# Altium footprint library analogmushroom.PcbLib: 50 footprints (part 2 of 4)
Each footprint in its own frame and in the unit in brackets; x right, y up, seen from the top. Pads: shape width x height; smd on the part's side, far side on the other; paste and mask are expansions set on the pad; w line width, h text height; cw(c..) or ccw(c..) is an arc to the next point about the centre after c.
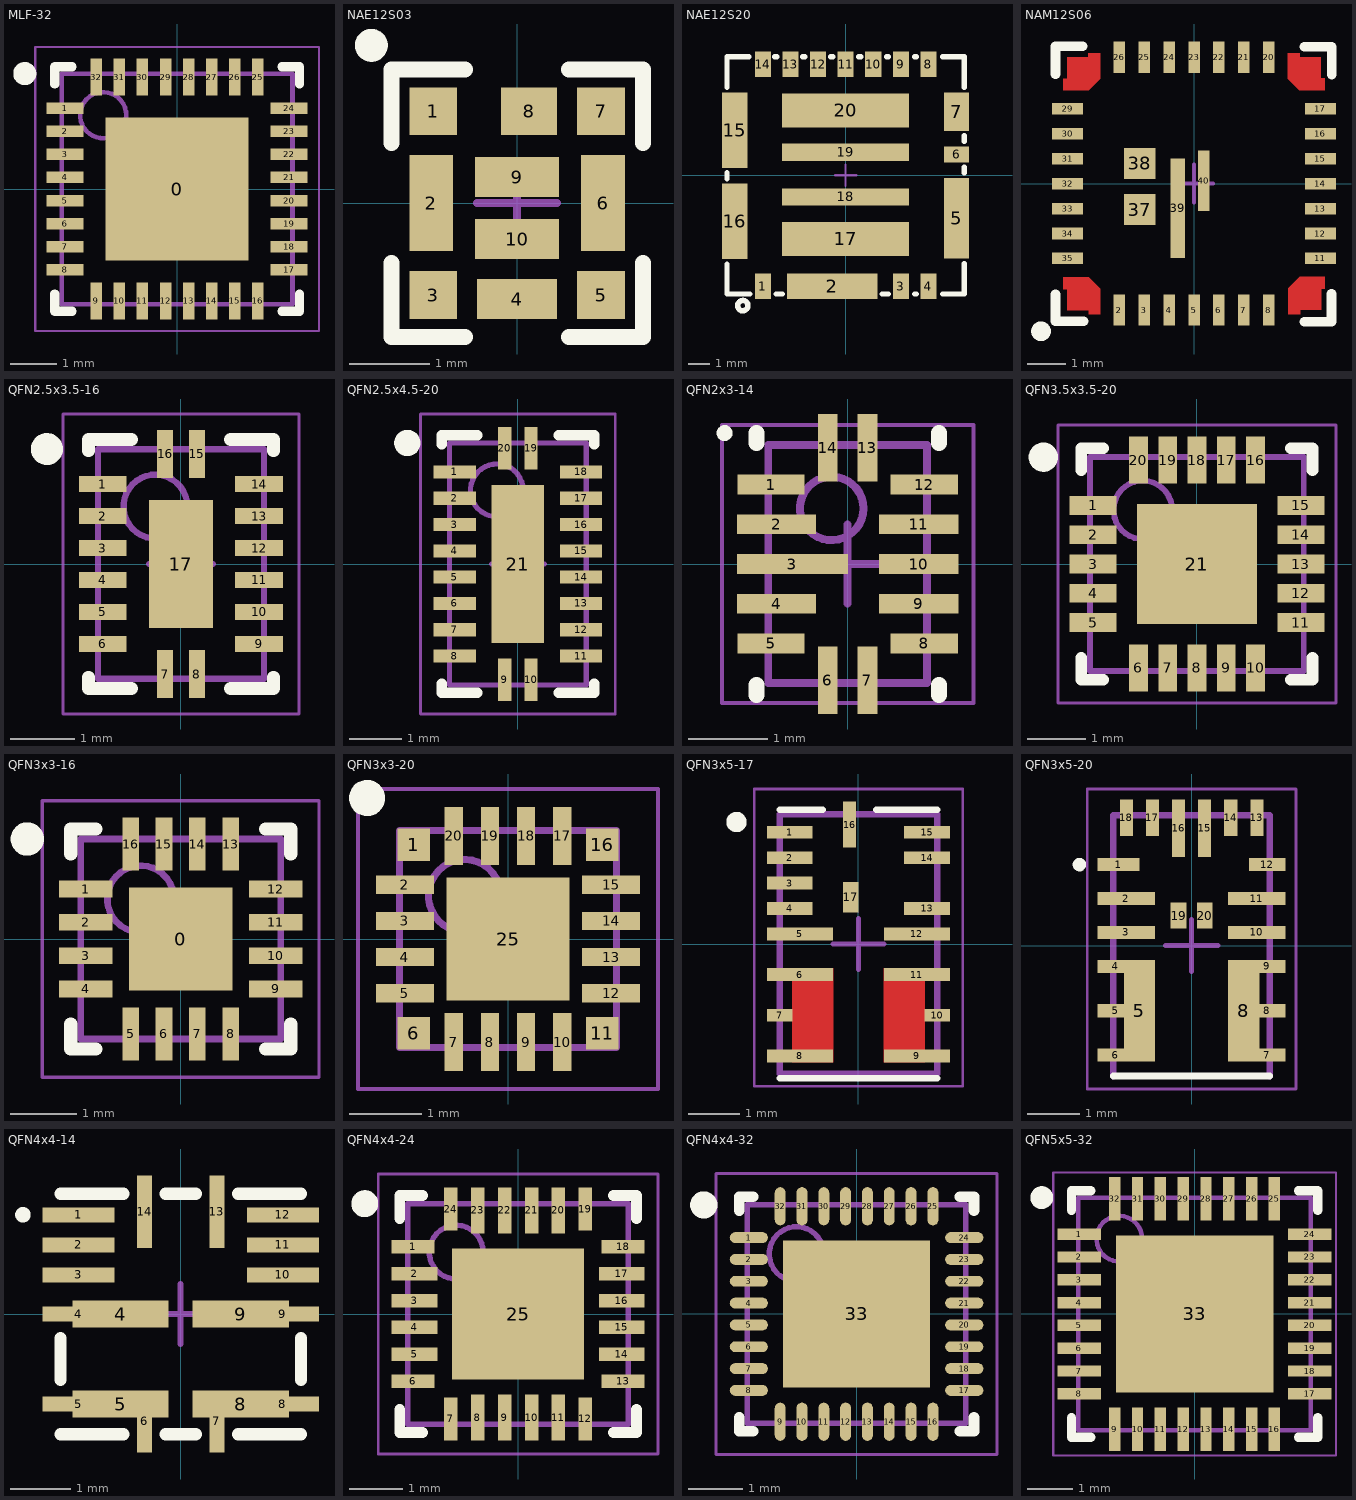
[diagram p1: the footprints below, top view; thin cyan lines are the x and y axes]

## MLF-32 [mm] "QFN, 32-Leads, Body 5.00x5.00mm, Pitch 0.50mm, Thermal Pad 3.10x3.10mm, IPC Medium Density"
height 0.85
pads (33):
  rect 3.1x3.1 smd: 0(0,0)
  rect 0.8x0.25 smd: 1(-2.425,1.75) 2(-2.425,1.25) 3(-2.425,0.75) 4(-2.425,0.25) 5(-2.425,-0.25) 6(-2.425,-0.75) 7(-2.425,-1.25) 8(-2.425,-1.75) 17(2.425,-1.75) 18(2.425,-1.25) 19(2.425,-0.75) 20(2.425,-0.25) 21(2.425,0.25) 22(2.425,0.75) 23(2.425,1.25) 24(2.425,1.75)
  rect 0.25x0.8 smd: 9(-1.75,-2.425) 10(-1.25,-2.425) 11(-0.75,-2.425) 12(-0.25,-2.425) 13(0.25,-2.425) 14(0.75,-2.425) 15(1.25,-2.425) 16(1.75,-2.425) 25(1.75,2.425) 26(1.25,2.425) 27(0.75,2.425) 28(0.25,2.425) 29(-0.25,2.425) 30(-0.75,2.425) 31(-1.25,2.425) 32(-1.75,2.425)
Top Overlay:
  circle w0.25: c-3.3,2.5 r0.125
  lines w0.2: -2.65,-2.275 -2.65,-2.65 -2.275,-2.65 ; -2.65,2.275 -2.65,2.65 -2.275,2.65 ; 2.275,-2.65 2.65,-2.65 2.65,-2.275 ; 2.275,2.65 2.65,2.65 2.65,2.275
Mechanical 13:
  circle w0.1: c-1.6,1.6 r0.5
  lines w0.1: -2.5,-2.5 -2.5,2.5 2.5,2.5 2.5,-2.5 -2.5,-2.5
Mechanical 15:
  lines w0.05: -3.075,-3.075 -3.075,3.075 3.075,3.075 3.075,-3.075 -3.075,-3.075
  lines w0.1: -0.5,0 0.5,0 ; 0,-0.5 0,0.5
3D body "QFN50P500X500X85_HS-33N.step": height 0.85, standoff 0, extent -2.52,-2.52 2.52,2.52

## NAE12S03 [mm]
pads (10):
  rect 0.6x0.6 smd: 1(-1.05,1.15) 3(-1.05,-1.15) 5(1.05,-1.15) 7(1.05,1.15)
  rect 0.55x1.2 smd: 2(-1.075,0) 6(1.075,0)
  rect 1x0.5 smd: 4(0,-1.2)
  rect 0.7x0.6 smd: 8(0.15,1.15)
  rect 1.05x0.5 smd: 9(0,0.325) 10(0,-0.45)
Top Overlay:
  circle w0.254: c-1.825,1.975 r0.079
  lines w0.2: -1.575,-0.75 -1.575,-1.675 -0.65,-1.675 ; -1.575,0.75 -1.575,1.675 -0.65,1.675 ; 0.65,-1.675 1.575,-1.675 1.575,-0.75 ; 0.65,1.675 1.575,1.675 1.575,0.75
Mechanical 15:
  lines w0.1: -0.5,0 0.5,0 ; 0,-0.5 0,0.5

## NAE12S20 [mm]
pads (20):
  rect 0.762x1.19 smd paste+0: 1(-3.9,-5.225) 3(2.6,-5.225) 4(3.9,-5.225) 8(3.9,5.225) 9(2.6,5.225) 10(1.3,5.225) 11(0,5.225) 12(-1.3,5.225) 13(-2.6,5.225) 14(-3.9,5.225)
  rect 4.24x1.19 smd paste+0: 2(-0.631,-5.225)
  rect 1.195x3.81 smd paste+0: 5(5.223,-2.025)
  rect 1.195x0.751 smd paste+0: 6(5.223,0.985)
  rect 1.195x1.82 smd paste+0: 7(5.222,2.998)
  rect 1.195x3.556 smd paste+0: 15(-5.222,2.131) 16(-5.223,-2.168)
  rect 5.99x1.6 smd paste+0: 17(0,-2.99) 20(0,3.06)
  rect 5.99x0.81 smd paste+0: 18(0,-1.015) 19(0,1.085)
Top Overlay:
  circle w0.254: c-4.844,-6.137 r0.244
  lines w0.254: -5.588,-4.178 -5.588,-5.588 -4.506,-5.588 ; -5.588,-0.159 -5.588,0.121 ; -5.588,4.14 -5.588,5.588 -4.56,5.588 ; -3.336,5.588 -3.244,5.588 ; -3.282,-5.588 -2.982,-5.588 ; -2.02,5.588 -1.928,5.588 ; -0.704,5.588 -0.612,5.588 ; 0.612,5.588 0.704,5.588 ; 1.72,-5.588 2.02,-5.588 ; 1.928,5.588 2.02,5.588 ; 3.244,-5.588 3.336,-5.588 ; 3.244,5.588 3.336,5.588 ; 4.56,-5.588 5.588,-5.588 5.588,-4.161 ; 4.56,5.588 5.588,5.588 5.588,4.14 ; 5.588,0.111 5.588,0.378 ; 5.588,1.591 5.588,1.857
Mechanical 15:
  lines w0.1: -0.5,0 0.5,0 ; 0,-0.5 0,0.5

## NAM12S06 [mm]
pads (32):
  rect 0.3x0.81 smd: 2(-1.95,-3.295) 3(-1.3,-3.295) 4(-0.65,-3.295) 5(0,-3.295) 6(0.65,-3.295) 7(1.3,-3.295) 8(1.95,-3.295) 20(1.95,3.295) 21(1.3,3.295) 22(0.65,3.295) 23(0,3.295) 24(-0.65,3.295) 25(-1.3,3.295) 26(-1.95,3.295)
  rect 0.81x0.3 smd: 11(3.295,-1.95) 12(3.295,-1.3) 13(3.295,-0.65) 14(3.295,0) 15(3.295,0.65) 16(3.295,1.3) 17(3.295,1.95) 29(-3.295,1.95) 30(-3.295,1.3) 31(-3.295,0.65) 32(-3.295,0) 33(-3.295,-0.65) 34(-3.295,-1.3) 35(-3.295,-1.95)
  rect 0.81x0.81 smd: 37(-1.415,-0.675) 38(-1.415,0.525)
  rect 0.39x2.6 smd: 39(-0.425,-0.645)
  rect 0.3x1.57 smd: 40(0.25,0.075)
Top Layer:
  region: 3.413,-2.43 2.753,-2.43 2.453,-2.73 2.453,-3.4 2.763,-3.4 2.763,-3.3 2.763,-3.29 2.773,-3.29 3.313,-3.29 3.313,-2.75 3.313,-2.74 3.323,-2.74 3.413,-2.74
  region: -3.41,2.43 -2.75,2.43 -2.45,2.73 -2.45,3.4 -2.76,3.4 -2.76,3.3 -2.76,3.29 -2.77,3.29 -3.31,3.29 -3.31,2.75 -3.31,2.74 -3.32,2.74 -3.41,2.74
  region: -2.44,-3.4 -2.44,-2.74 -2.74,-2.44 -3.41,-2.44 -3.41,-2.75 -3.31,-2.75 -3.3,-2.75 -3.3,-2.76 -3.3,-3.3 -2.76,-3.3 -2.75,-3.3 -2.75,-3.31 -2.75,-3.4
  region: 2.44,3.4 2.44,2.74 2.74,2.44 3.41,2.44 3.41,2.75 3.31,2.75 3.3,2.75 3.3,2.76 3.3,3.3 2.76,3.3 2.75,3.3 2.75,3.31 2.75,3.4
Top Overlay:
  circle w0.254: c-3.99,-3.85 r0.13
  lines w0.254: -3.61,-2.884 -3.61,-3.59 -2.883,-3.59 ; -3.61,2.853 -3.61,3.58 -2.904,3.58 ; 2.873,-3.6 3.58,-3.6 3.58,-2.873 ; 2.88,3.57 3.587,3.57 3.587,2.843
Mechanical 15:
  lines w0.1: -0.5,0 0.5,0 ; 0,-0.5 0,0.5

## QFN2.5x3.5-16 [mm] "QFN, 16-Leads, Body 2.50x3.50mm, Pitch 0.50mm, Thermal Pad 1.00x2.00mm, IPC Medium Density"
height 1
pads (17):
  rect 0.75x0.25 smd: 1(-1.225,1.25) 2(-1.225,0.75) 3(-1.225,0.25) 4(-1.225,-0.25) 5(-1.225,-0.75) 6(-1.225,-1.25) 9(1.225,-1.25) 10(1.225,-0.75) 11(1.225,-0.25) 12(1.225,0.25) 13(1.225,0.75) 14(1.225,1.25)
  rect 0.25x0.75 smd: 7(-0.25,-1.725) 8(0.25,-1.725) 15(0.25,1.725) 16(-0.25,1.725)
  rect 1x2 smd: 17(0,0)
Top Overlay:
  circle w0.25: c-2.1,1.8 r0.125
  lines w0.2: -1.45,-1.775 -1.45,-1.95 -0.775,-1.95 ; -1.45,1.775 -1.45,1.95 -0.775,1.95 ; 0.775,-1.95 1.45,-1.95 1.45,-1.775 ; 0.775,1.95 1.45,1.95 1.45,1.775
Mechanical 13:
  circle w0.1: c-0.4,0.9 r0.5
  lines w0.1: -1.3,-1.8 1.3,-1.8 1.3,1.8 -1.3,1.8 -1.3,-1.8
Mechanical 15:
  lines w0.05: -1.85,-2.35 1.85,-2.35 1.85,2.35 -1.85,2.35 -1.85,-2.35
  lines w0.1: -0.5,0 0.5,0 ; 0,-0.5 0,0.5
3D body "QFN50P250X350X100_HS-17N.step": height 1, standoff 0, extent -1.35,-1.85 1.35,1.85

## QFN2.5x4.5-20 [mm] "QFN, 20-Leads, Body 2.50x4.50mm, Pitch 0.50mm, Thermal Pad 1.00x3.00mm, IPC Medium Density"
height 1
pads (21):
  rect 0.8x0.25 smd: 1(-1.2,1.75) 2(-1.2,1.25) 3(-1.2,0.75) 4(-1.2,0.25) 5(-1.2,-0.25) 6(-1.2,-0.75) 7(-1.2,-1.25) 8(-1.2,-1.75) 11(1.2,-1.75) 12(1.2,-1.25) 13(1.2,-0.75) 14(1.2,-0.25) 15(1.2,0.25) 16(1.2,0.75) 17(1.2,1.25) 18(1.2,1.75)
  rect 0.25x0.8 smd: 9(-0.25,-2.2) 10(0.25,-2.2) 19(0.25,2.2) 20(-0.25,2.2)
  rect 1x3 smd: 21(0,0)
Top Overlay:
  circle w0.25: c-2.1,2.3 r0.125
  lines w0.2: -1.45,-2.275 -1.45,-2.45 -0.775,-2.45 ; -1.45,2.275 -1.45,2.45 -0.775,2.45 ; 0.775,-2.45 1.45,-2.45 1.45,-2.275 ; 0.775,2.45 1.45,2.45 1.45,2.275
Mechanical 13:
  circle w0.1: c-0.4,1.4 r0.5
  lines w0.1: -1.3,-2.3 -1.3,2.3 1.3,2.3 1.3,-2.3 -1.3,-2.3
Mechanical 15:
  lines w0.05: -1.85,-2.85 -1.85,2.85 1.85,2.85 1.85,-2.85 -1.85,-2.85
  lines w0.1: -0.5,0 0.5,0 ; 0,-0.5 0,0.5
3D body "QFN50P250X450X100_HS-21N.step": height 1, standoff 0, extent -1.32,-2.32 1.32,2.32

## QFN2x3-14 [mm]
height 0.9
pads (14):
  rect 0.85x0.25 smd: 1(-0.965,1) 5(-0.965,-1) 8(0.965,-1) 12(0.965,1)
  rect 1x0.25 smd: 2(-0.895,0.5) 4(-0.895,-0.5) 9(0.895,-0.5) 10(0.895,0) 11(0.895,0.5)
  rect 1.4x0.25 smd: 3(-0.695,0)
  rect 0.25x0.85 smd: 6(-0.25,-1.465) 7(0.25,-1.465) 13(0.25,1.465) 14(-0.25,1.465)
Top Overlay:
  circle w0.1: c-1.55,1.65 r0.05
  lines w0.2: -1.15,-1.65 -1.15,-1.525 ; -1.15,1.525 -1.15,1.65 ; 1.15,-1.65 1.15,-1.525 ; 1.15,1.525 1.15,1.65
Mechanical 13:
  circle w0.1: c-0.2,0.7 r0.4
  lines w0.1: -1,-1.5 -1,1.5 1,1.5 1,-1.5 -1,-1.5
Mechanical 15:
  lines w0.05: -1.585,-1.75 -1.585,1.75 1.585,1.75 1.585,-1.75 -1.585,-1.75
  lines w0.1: -0.5,0 0.5,0 ; 0,-0.5 0,0.5
3D body "SON50P200X90-10N.step": height 0.9, standoff 0, extent -1.001,-1.5 1.001,1.5

## QFN3.5x3.5-20 [mm] "QFN, 20-Leads, Body 3.50x3.50mm, Pitch 0.50mm, Thermal Pad 2.05x2.05mm, IPC Medium Density"
height 1
pads (21):
  rect 0.8x0.32 smd: 1(-1.775,1) 2(-1.775,0.5) 3(-1.775,0) 4(-1.775,-0.5) 5(-1.775,-1) 11(1.775,-1) 12(1.775,-0.5) 13(1.775,0) 14(1.775,0.5) 15(1.775,1)
  rect 0.32x0.8 smd: 6(-1,-1.775) 7(-0.5,-1.775) 8(0,-1.775) 9(0.5,-1.775) 10(1,-1.775) 16(1,1.775) 17(0.5,1.775) 18(0,1.775) 19(-0.5,1.775) 20(-1,1.775)
  rect 2.05x2.05 smd: 21(0,0)
Top Overlay:
  circle w0.25: c-2.625,1.825 r0.125
  lines w0.2: -1.975,-1.6 -1.975,-1.975 -1.6,-1.975 ; -1.975,1.6 -1.975,1.975 -1.6,1.975 ; 1.6,-1.975 1.975,-1.975 1.975,-1.6 ; 1.6,1.975 1.975,1.975 1.975,1.6
Mechanical 13:
  circle w0.1: c-0.925,0.925 r0.5
  lines w0.1: -1.825,-1.825 -1.825,1.825 1.825,1.825 1.825,-1.825 -1.825,-1.825
Mechanical 15:
  lines w0.05: -2.375,-2.375 -2.375,2.375 2.375,2.375 2.375,-2.375 -2.375,-2.375
  lines w0.1: -0.5,0 0.5,0 ; 0,-0.5 0,0.5
3D body "QFN50P350X350X100_HS-21N.step": height 1, standoff 0, extent -1.845,-1.845 1.845,1.845

## QFN3x3-16 [mm] "QFN, 16-Leads, Body 3.00x3.00mm, Pitch 0.50mm, Thermal Pad 1.55x1.55mm, IPC Medium Density"
height 0.75
pads (17):
  rect 1.55x1.55 smd: 0(0,0)
  rect 0.8x0.25 smd: 1(-1.425,0.75) 2(-1.425,0.25) 3(-1.425,-0.25) 4(-1.425,-0.75) 9(1.425,-0.75) 10(1.425,-0.25) 11(1.425,0.25) 12(1.425,0.75)
  rect 0.25x0.8 smd: 5(-0.75,-1.425) 6(-0.25,-1.425) 7(0.25,-1.425) 8(0.75,-1.425) 13(0.75,1.425) 14(0.25,1.425) 15(-0.25,1.425) 16(-0.75,1.425)
Top Overlay:
  circle w0.25: c-2.3,1.5 r0.125
  lines w0.2: -1.65,-1.275 -1.65,-1.65 -1.275,-1.65 ; -1.65,1.275 -1.65,1.65 -1.275,1.65 ; 1.275,-1.65 1.65,-1.65 1.65,-1.275 ; 1.275,1.65 1.65,1.65 1.65,1.275
Mechanical 13:
  circle w0.1: c-0.6,0.6 r0.5
  lines w0.1: -1.5,-1.5 1.5,-1.5 1.5,1.5 -1.5,1.5 -1.5,-1.5
Mechanical 15:
  lines w0.05: -2.075,-2.075 2.075,-2.075 2.075,2.075 -2.075,2.075 -2.075,-2.075
  lines w0.1: -0.5,0 0.5,0 ; 0,-0.5 0,0.5
3D body "QFN50P300X300X75_HS-17N.step": height 0.75, standoff 0, extent -1.525,-1.525 1.525,1.525

## QFN3x3-20 [mm] "QFN, 24-Leads, Body 3.00x3.00mm, Pitch 0.50mm, Thermal Pad 1.70x1.70mm, IPC Medium Density"
height 0.5
pads (21):
  rect 0.45x0.45 smd: 1(-1.305,1.305) 6(-1.305,-1.305) 11(1.305,-1.305) 16(1.305,1.305)
  rect 0.8x0.25 smd: 2(-1.425,0.75) 3(-1.425,0.25) 4(-1.425,-0.25) 5(-1.425,-0.75) 12(1.425,-0.75) 13(1.425,-0.25) 14(1.425,0.25) 15(1.425,0.75)
  rect 0.25x0.8 smd: 7(-0.75,-1.425) 8(-0.25,-1.425) 9(0.25,-1.425) 10(0.75,-1.425) 17(0.75,1.425) 18(0.25,1.425) 19(-0.25,1.425) 20(-0.75,1.425)
  rect 1.7x1.7 smd: 25(0,0)
Top Overlay:
  circle w0.25: c-1.95,1.95 r0.125
Mechanical 13:
  circle w0.1: c-0.6,0.6 r0.5
  lines w0.1: -1.5,-1.5 1.5,-1.5 1.5,1.5 -1.5,1.5 -1.5,-1.5
Mechanical 15:
  lines w0.05: -2.075,-2.075 2.075,-2.075 2.075,2.075 -2.075,2.075 -2.075,-2.075
  lines w0.1: -0.5,0 0.5,0 ; 0,-0.5 0,0.5
3D body "QFN50P300X300X50_HS-25N.step": height 0.5, standoff 0, extent -1.52,-1.52 1.52,1.52

## QFN3x5-17 [mm]
pads (17):
  rect 0.9x0.25 smd: 1(-1.35,2.2) 2(-1.35,1.7) 3(-1.35,1.2) 4(-1.35,0.7) 13(1.35,0.7) 14(1.35,1.7) 15(1.35,2.2)
  rect 1.3x0.25 smd: 5(-1.15,0.2) 6(-1.15,-0.6) 8(-1.15,-2.2) 9(1.15,-2.2) 11(1.15,-0.6) 12(1.15,0.2)
  rect 0.5x0.25 smd: 7(-1.55,-1.4) 10(1.55,-1.4)
  rect 0.25x0.9 smd: 16(-0.175,2.35)
  rect 0.3x0.6 smd: 17(-0.15,0.925)
Top Layer:
  region: 1.3,-2.325 0.5,-2.325 0.5,-0.48 0.5,-0.475 1.3,-0.475
  region: -0.5,-2.325 -1.3,-2.325 -1.3,-0.475 -0.5,-0.475
Top Overlay:
  circle w0.2: c-2.4,2.4 r0.1
  lines w0.127: -1.55,-2.64 1.55,-2.64 ; -1.55,2.64 -0.7,2.64 ; 0.35,2.64 1.55,2.64
Top Paste:
  region: 1.3,-2.075 0.5,-2.075 0.5,-0.725 1.3,-0.725
  region: -0.5,-2.075 -1.3,-2.075 -1.3,-0.725 -0.5,-0.725
Top Solder:
  region: 1.4,-2.075 0.4,-2.075 0.4,-0.725 1.4,-0.725
  region: -0.4,-2.075 -1.4,-2.075 -1.4,-0.725 -0.4,-0.725
Mechanical 13:
  lines w0.127: -1.55,-2.55 -1.55,2.55 1.55,2.55 1.55,-2.55 -1.55,-2.55
Mechanical 15:
  lines w0.05: -2.05,-2.8 -2.05,3.05 2.05,3.05 2.05,-2.8 -2.05,-2.8
  lines w0.1: -0.5,0 0.5,0 ; 0,-0.5 0,0.5
3D body "User Library-MPM3515GQVE-AEC1-Z-1.STEP": height 1.6, standoff 0, extent -1.5,-2.5 1.5,2.5

## QFN3x5-20 [mm]
pads (22):
  rect 0.8x0.25 smd: 1(-1.4,1.55)
  rect 1.1x0.25 smd: 2(-1.25,0.9) 3(-1.25,0.25) 10(1.25,0.25) 11(1.25,0.9)
  rect 0.7x0.25 smd: 4(-1.45,-0.4) 5(-1.45,-1.25) 6(-1.45,-2.1) 7(1.45,-2.1) 8(1.45,-1.25) 9(1.45,-0.4) 12(1.45,1.55)
  rect 0.6x1.95 smd: 5(-1,-1.25) 8(1,-1.25)
  rect 0.25x0.7 smd: 13(1.25,2.45) 14(0.75,2.45) 17(-0.75,2.45) 18(-1.25,2.45)
  rect 0.25x1.1 smd: 15(0.25,2.25) 16(-0.25,2.25)
  rect 0.3x0.5 smd: 19(-0.25,0.575) 20(0.25,0.575)
Top Overlay:
  circle w0.127: c-2.15,1.55 r0.065
  lines w0.127: -1.5,-2.5 1.5,-2.5
Mechanical 13:
  lines w0.127: -1.5,-2.5 -1.5,2.5 1.5,2.5 1.5,-2.5
Mechanical 15:
  lines w0.05: -2,-2.75 -2,3 2,3 2,-2.75 -2,-2.75
  lines w0.1: -0.5,0 0.5,0 ; 0,-0.5 0,0.5
3D body "MPM3820GQV.step": height 1.6, standoff 0, extent -1.5,-2.5 1.5,2.5

## QFN4x4-14 [mm]
pads (18):
  rect 1.2x0.25 smd: 1(-1.7,1.65) 2(-1.7,1.15) 3(-1.7,0.65) 4(-1.7,0) 5(-1.7,-1.5) 8(1.7,-1.5) 9(1.7,0) 10(1.7,0.65) 11(1.7,1.15) 12(1.7,1.65)
  rect 1.6x0.45 smd: 4(-1,0) 5(-1,-1.5) 8(1,-1.5) 9(1,0)
  rect 0.25x1.025 smd: 6(-0.6,-1.787) 7(0.6,-1.787)
  rect 0.25x1.2 smd: 13(0.6,1.7) 14(-0.6,1.7)
Top Overlay:
  circle w0.127: c-2.625,1.65 r0.065
  lines w0.2: -2,-2 -0.95,-2 ; -2,-1.1 -2,-0.4 ; -2,2 -0.95,2 ; -0.25,-2 0.25,-2 ; -0.25,2 0.25,2 ; 0.95,-2 2,-2 ; 0.95,2 2,2 ; 2,-1.1 2,-0.4
Mechanical 15:
  lines w0.1: -0.5,0 0.5,0 ; 0,-0.5 0,0.5
3D body "MPM38222GR.step": height 1.6, standoff 0, extent -2,-2 2,2

## QFN4x4-24 [mm] "QFN, 24-Leads, Body 4.00x4.00mm, Pitch 0.50mm, Thermal Pad 2.45x2.43mm, IPC Medium Density"
height 1
pads (25):
  rect 0.8x0.25 smd: 1(-1.95,1.25) 6(-1.95,-1.25) 13(1.95,-1.25) 18(1.95,1.25)
  rect 0.85x0.25 smd: 2(-1.925,0.75) 3(-1.925,0.25) 4(-1.925,-0.25) 5(-1.925,-0.75) 14(1.925,-0.75) 15(1.925,-0.25) 16(1.925,0.25) 17(1.925,0.75)
  rect 0.25x0.8 smd: 7(-1.25,-1.95) 12(1.25,-1.95) 19(1.25,1.95) 24(-1.25,1.95)
  rect 0.25x0.85 smd: 8(-0.75,-1.925) 9(-0.25,-1.925) 10(0.25,-1.925) 11(0.75,-1.925) 20(0.75,1.925) 21(0.25,1.925) 22(-0.25,1.925) 23(-0.75,1.925)
  rect 2.45x2.43 smd: 25(0,0)
Top Overlay:
  circle w0.25: c-2.85,2.05 r0.125
  lines w0.2: -2.2,-1.775 -2.2,-2.2 -1.775,-2.2 ; -2.2,1.775 -2.2,2.2 -1.775,2.2 ; 1.775,-2.2 2.2,-2.2 2.2,-1.775 ; 1.775,2.2 2.2,2.2 2.2,1.775
Mechanical 13:
  circle w0.1: c-1.15,1.15 r0.5
  lines w0.1: -2.05,-2.05 2.05,-2.05 2.05,2.05 -2.05,2.05 -2.05,-2.05
Mechanical 15:
  lines w0.05: -2.6,-2.6 2.6,-2.6 2.6,2.6 -2.6,2.6 -2.6,-2.6
  lines w0.1: -0.5,0 0.5,0 ; 0,-0.5 0,0.5
3D body "QFN4x4-24.step": height 1, standoff 0, extent -2.1,-2.1 2.1,2.1

## QFN4x4-32 [mm] "QFN, 32-Leads, Body 4.00x4.00mm, Pitch 0.40mm, Thermal Pad 2.70x2.70mm, IPC Medium Density"
height 0.9
pads (33):
  oval 0.7x0.2 smd: 1(-1.975,1.4) 2(-1.975,1) 3(-1.975,0.6) 4(-1.975,0.2) 5(-1.975,-0.2) 6(-1.975,-0.6) 7(-1.975,-1) 8(-1.975,-1.4) 17(1.975,-1.4) 18(1.975,-1) 19(1.975,-0.6) 20(1.975,-0.2) 21(1.975,0.2) 22(1.975,0.6) 23(1.975,1) 24(1.975,1.4)
  oval 0.2x0.7 smd: 9(-1.4,-1.975) 10(-1,-1.975) 11(-0.6,-1.975) 12(-0.2,-1.975) 13(0.2,-1.975) 14(0.6,-1.975) 15(1,-1.975) 16(1.4,-1.975) 25(1.4,1.975) 26(1,1.975) 27(0.6,1.975) 28(0.2,1.975) 29(-0.2,1.975) 30(-0.6,1.975) 31(-1,1.975) 32(-1.4,1.975)
  rect 2.7x2.7 smd: 33(0,0)
Top Overlay:
  circle w0.25: c-2.8,2 r0.125
  lines w0.2: -2.15,-1.9 -2.15,-2.15 -1.9,-2.15 ; -2.15,1.9 -2.15,2.15 -1.9,2.15 ; 1.9,-2.15 2.15,-2.15 2.15,-1.9 ; 1.9,2.15 2.15,2.15 2.15,1.9
Mechanical 13:
  circle w0.1: c-1.1,1.1 r0.5
  lines w0.1: -2,-2 2,-2 2,2 -2,2 -2,-2
Mechanical 15:
  lines w0.05: -2.575,-2.575 2.575,-2.575 2.575,2.575 -2.575,2.575 -2.575,-2.575
  lines w0.1: -0.5,0 0.5,0 ; 0,-0.5 0,0.5
3D body "QFN40P400X400X90_HS-33N.step": height 0.9, standoff 0, extent -2.02,-2.02 2.02,2.02

## QFN5x5-32 [mm]
height 0.8
pads (33):
  rect 0.95x0.25 smd: 1(-2.525,1.75) 2(-2.525,1.25) 3(-2.525,0.75) 4(-2.525,0.25) 5(-2.525,-0.25) 6(-2.525,-0.75) 7(-2.525,-1.25) 8(-2.525,-1.75) 17(2.525,-1.75) 18(2.525,-1.25) 19(2.525,-0.75) 20(2.525,-0.25) 21(2.525,0.25) 22(2.525,0.75) 23(2.525,1.25) 24(2.525,1.75)
  rect 0.25x0.95 smd: 9(-1.75,-2.525) 10(-1.25,-2.525) 11(-0.75,-2.525) 12(-0.25,-2.525) 13(0.25,-2.525) 14(0.75,-2.525) 15(1.25,-2.525) 16(1.75,-2.525) 25(1.75,2.525) 26(1.25,2.525) 27(0.75,2.525) 28(0.25,2.525) 29(-0.25,2.525) 30(-0.75,2.525) 31(-1.25,2.525) 32(-1.75,2.525)
  rect 3.45x3.45 smd: 33(0,0)
Top Overlay:
  circle w0.25: c-3.35,2.55 r0.125
  lines w0.2: -2.7,-2.275 -2.7,-2.7 -2.275,-2.7 ; -2.7,2.275 -2.7,2.7 -2.275,2.7 ; 2.275,-2.7 2.7,-2.7 2.7,-2.275 ; 2.275,2.7 2.7,2.7 2.7,2.275
Mechanical 13:
  circle w0.1: c-1.65,1.65 r0.5
  lines w0.1: -2.55,-2.55 2.55,-2.55 2.55,2.55 -2.55,2.55 -2.55,-2.55
Mechanical 15:
  lines w0.05: -3.1,-3.1 3.1,-3.1 3.1,3.1 -3.1,3.1 -3.1,-3.1
  lines w0.1: -0.5,0 0.5,0 ; 0,-0.5 0,0.5
3D body "QFN127P600-8N.step": height 0.8, standoff 0, extent -2.6,-2.6 2.6,2.6